# Altium integrated library Avia_Semiconductor_Data_Converter_ADC.IntLib: 1 symbol
Pins are listed as number, name and electrical type; pins without a type are passive.

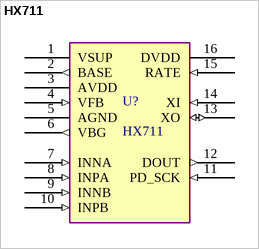
[diagram p0: symbol HX711]

## HX711
designator U?
24-Bit Analog-to-Digital Converter (ADC) for Weigh Scales; ComponentLink1Description: Datasheet; ComponentLink1URL: https://cdn.sparkfun.com/datasheets/Sensors/ForceFlex/hx711_english.pdf
footprint SOP127P600X160-16 (IPC-7351C ( SOP-16L  ))
pins: 1 VSUP (power) "Regulator supply: 2.7 ~ 5.5V", 2 BASE (out) "Regulator control output（NC when not used）", 3 AVDD (power) "Analog supply: 2.6 ~ 5.5V", 4 VFB (in) "Regulator control input（connect to AGND when not used）", 5 AGND (power) "Analog Ground", 6 VBG (out) "Reference bypass output", 7 INNA (in) "Channel A negative input", 8 INPA (in) "Channel A positive input", 9 INNB (in) "Channel B negative input", 10 INPB (in) "Channel B positive input", 11 PD_SCK (in) "Power down control (high active) and serial clock input", 12 DOUT (out) "Serial data output", 13 XO (io) "Crystal I/O (NC when not used）", 14 XI (in) "Crystal I/O or external clock input, 0: use on-chip oscillator", 15 RATE (in) "Output data rate control, 0: 10Hz; 1: 80Hz", 16 DVDD (power) "Digital supply: 2.6 ~ 5.5V"